# EAGLE library part DE09S364TLF (library con-amphenol)
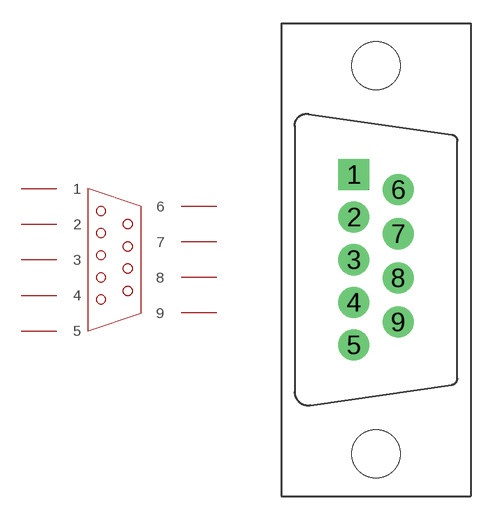
[diagram p16: symbol with the pads of DE09S364TLF; footprint DE09S364TLF]

Designator prefix J

## DE09S364TLF  [DE09S364TLF]
1  1
2  2
3  3
4  4
5  5
6  6
7  7
8  8
9  9

## Footprint DE09S364TLF (pad centres in mm)
drill 0.9 pad 2 square: 1 -0.15,5.48
drill 0.9 pad 2: 2 -0.15,2.74; 3 -0.15,0; 4 -0.15,-2.74; 5 -0.15,-5.48; 6 2.69,4.51; 7 2.69,1.67; 8 2.69,-1.17; 9 2.69,-4.01
hole 3.1 at 1.27,12.495
hole 3.1 at 1.27,-12.495